# EAGLE library part SK-12F17-G_7 (library SK-12F17-G_7)
Slide Switch SPDT Through Hole, 300MA 30V Right Angle Source: Datasheet <https://www.digikey.com/en/products/detail/c-k/SK-12F17-G-7/2747163>
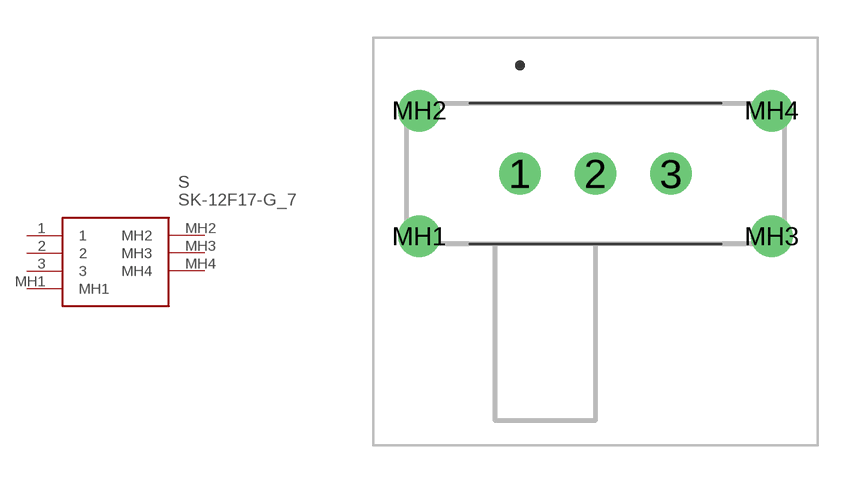
[diagram p0: symbol with the pads of SK12F17G7; footprint SK12F17G7]

Designator prefix S

## SK-12F17-G_7 (Arrow_Part_Number: SK-12F17-G 7; Arrow_Price-Stock: https://www.arrow.com/en/products/sk12f17g7/ck?region=nac; Description: Slide Switch SPDT Through Hole, 300MA 30V Right Angle; Height: 8mm; Manufacturer_Name: C & K COMPONENTS; Manufacturer_Part_Number: SK-12F17-G 7; Mouser_Part_Number: 611-SK-12F17-G7; Mouser_Price-Stock: https://www.mouser.com/Search/Refine.aspx?Keyword=611-SK-12F17-G7)  [SK12F17G7]
1  1
2  2
3  3
MH1  MH1
MH2  MH2
MH3  MH3
MH4  MH4

## Footprint SK12F17G7 (pad centres in mm)
SK-12F17-G 7-2
drill 1.1 pad 1.65: 1 0,0; 2 3,0; 3 6,0; MH1 -4,-2.5; MH2 -4,2.5; MH3 10,-2.5; MH4 10,2.5